# Altium integrated library TI Power Management Step-Up Regulator.IntLib: 226 symbols (part 10 of 11)
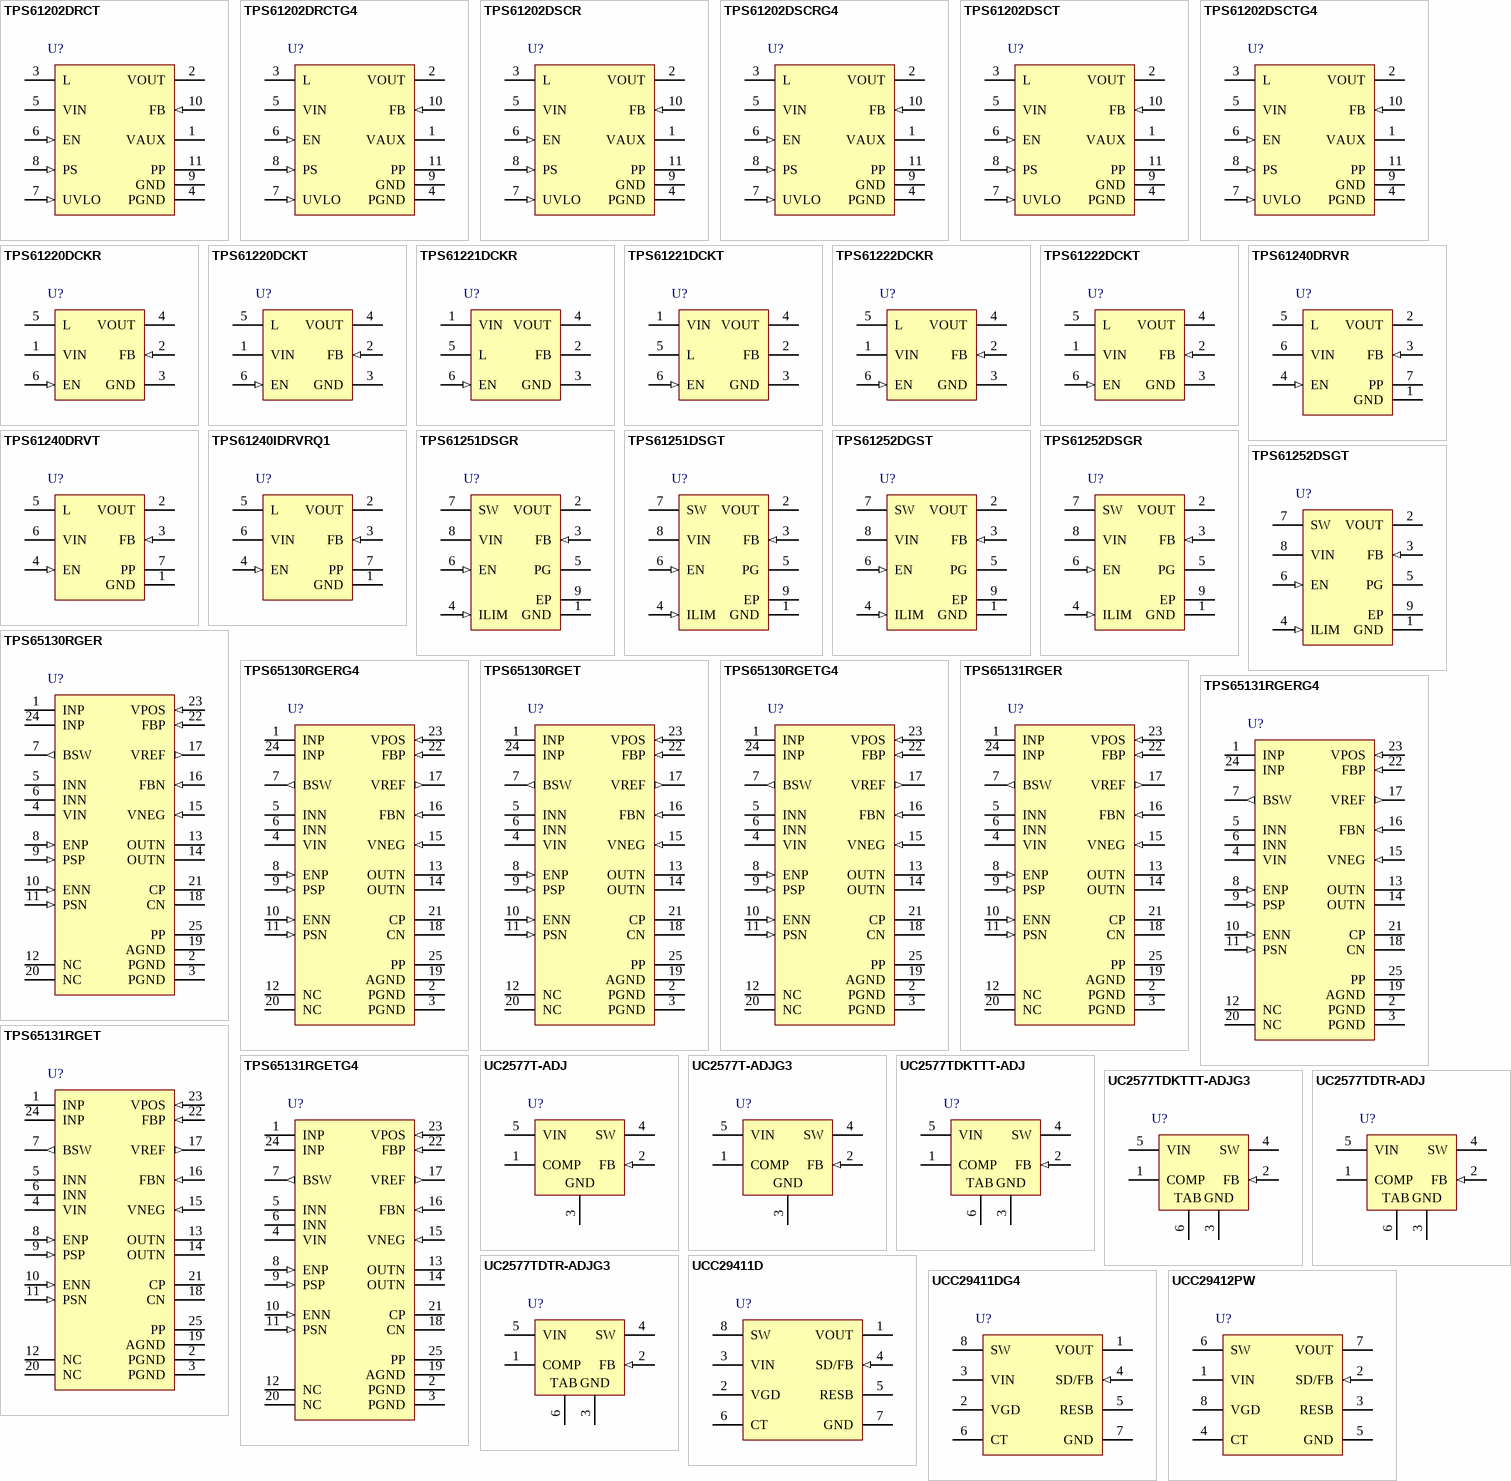
[diagram p15: symbols TPS61202DRCT to UCC29412PW]

## TPS61251DSGR
designator U?
Boost Voltage Converter with 2.3 to 6 V Input and 3 to 6.5 V Output, -40 to 85 degC, 8-Pin WSON (DSG), Green (RoHS & no Sb/Br); Manufacturer: Texas Instruments; PartNumber: TPS61251DSGR; Regulated Outputs(#): 1; SubFamily: Step-Up Regulator; Switching Frequency(Max)(kHz): 3500; Vin(Max)(V): 6; Vin(Min)(V): 2.3; Vout(Max)(V): 6.5; Vout(Min)(V): 3; DatasheetVersion: SLVSAF7; PackageVersion: revB, Oct-2010; PackageReference: DSG8-1600X900TP; PackageDescription: 8-Pin Plastic Small Outline No-Lead, 2 x 2 x 0.8 mm Body, 0.5 mm Pitch, Exposed Pad; Supplier 1: Digi-Key; Supplier Part Number 1: TPS61251DSGR-ND; Supplier 2: Newark; Supplier Part Number 2: 01T0838; Supplier 3: Mouser; Supplier Part Number 3: 595-TPS61251DSGR; Eco-Plan: Green (RoHS & no Sb/Br); Topology: Boost; Mounting Technology: Surface Mount; Code_JEDEC: MO-229; ComponentLink1Description: Datasheet; ComponentLink1URL: http://www.ti.com/general/docs/lit/getliterature.tsp?genericPartNumber=TPS61251&fileType=pdf; ComponentLink2Description: Package Specification; ComponentLink2URL: http://www.ti.com/litv/pdf/mpds308a
footprint DSG8-1600X900TP (SON, 8-Leads, Body 2x2mm, Pitch 0.5mm, Thermal Pad 1.6x0.9mm, TI Recommended)
pins: 1 GND (power) "Ground", 2 VOUT (power) "Boost converter output", 3 FB (in) "Voltage feedback pin", 4 ILIM (in) "Adjustable average input current limit. Can be connected to VIN for maximum current limit or to GND for minimum current limit.", 5 PG (oc) "Output power good (1 good, 0 failure; open drain)", 6 EN (in) "Enable input. (1 enabled, 0 disabled)", 7 SW (power) "Connection for Inductor", 8 VIN (power) "Supply voltage for power stage", 9 EP (power) "Must be soldered to achieve appropriate power dissipation and for mechanical reasons. Must be connected to GND."

## TPS61251DSGT
designator U?
Boost Voltage Converter with 2.3 to 6 V Input and 3 to 6.5 V Output, -40 to 85 degC, 8-Pin WSON (DSG), Green (RoHS & no Sb/Br); Manufacturer: Texas Instruments; PartNumber: TPS61251DSGT; Regulated Outputs(#): 1; SubFamily: Step-Up Regulator; Switching Frequency(Max)(kHz): 3500; Vin(Max)(V): 6; Vin(Min)(V): 2.3; Vout(Max)(V): 6.5; Vout(Min)(V): 3; DatasheetVersion: SLVSAF7; PackageVersion: revB, Oct-2010; PackageReference: DSG8-1600X900TP; PackageDescription: 8-Pin Plastic Small Outline No-Lead, 2 x 2 x 0.8 mm Body, 0.5 mm Pitch, Exposed Pad; Supplier 1: Digi-Key; Supplier Part Number 1: 296-27866-2-ND; Supplier 2: Digi-Key; Supplier Part Number 2: 296-27866-1-ND; Supplier 3: Digi-Key; Supplier Part Number 3: 296-27866-6-ND; Supplier 4: Farnell; Supplier Part Number 4: 1855123; Supplier 5: Newark; Supplier Part Number 5: 01T0839; Supplier 6: Mouser; Supplier Part Number 6: 595-TPS61251DSGT; Eco-Plan: Green (RoHS & no Sb/Br); Topology: Boost; Mounting Technology: Surface Mount; Code_JEDEC: MO-229; ComponentLink1Description: Datasheet; ComponentLink1URL: http://www.ti.com/general/docs/lit/getliterature.tsp?genericPartNumber=TPS61251&fileType=pdf; ComponentLink2Description: Package Specification; ComponentLink2URL: http://www.ti.com/litv/pdf/mpds308a
footprint DSG8-1600X900TP (SON, 8-Leads, Body 2x2mm, Pitch 0.5mm, Thermal Pad 1.6x0.9mm, TI Recommended)
pins: 1 GND (power) "Ground", 2 VOUT (power) "Boost converter output", 3 FB (in) "Voltage feedback pin", 4 ILIM (in) "Adjustable average input current limit. Can be connected to VIN for maximum current limit or to GND for minimum current limit.", 5 PG (oc) "Output power good (1 good, 0 failure; open drain)", 6 EN (in) "Enable input. (1 enabled, 0 disabled)", 7 SW (power) "Connection for Inductor", 8 VIN (power) "Supply voltage for power stage", 9 EP (power) "Must be soldered to achieve appropriate power dissipation and for mechanical reasons. Must be connected to GND."

## TPS61252DGST
designator U?
Boost Voltage Converter with 2.3 to 6 V Input and 3 to 6.5 V Output, -40 to 85 degC, 8-Pin WSON (DSG),; Manufacturer: Texas Instruments; PartNumber: TPS61252DGST; Regulated Outputs(#): 1; SubFamily: Step-Up Regulator; Switching Frequency(Max)(kHz): 3500; Vin(Max)(V): 6; Vin(Min)(V): 2.3; Vout(Max)(V): 6.5; Vout(Min)(V): 3; DatasheetVersion: SLVSAG3; PackageVersion: revB, Oct-2010; PackageReference: DSG8-1600X900TP; PackageDescription: 8-Pin Plastic Small Outline No-Lead, 2 x 2 x 0.8 mm Body, 0.5 mm Pitch, Exposed Pad; Supplier 1: Mouser; Supplier Part Number 1: N/A; Topology: Boost; Mounting Technology: Surface Mount; Code_JEDEC: MO-229; ComponentLink1Description: Datasheet; ComponentLink1URL: http://www.ti.com/general/docs/lit/getliterature.tsp?genericPartNumber=TPS61252&fileType=pdf; ComponentLink2Description: Package Specification; ComponentLink2URL: http://www.ti.com/litv/pdf/mpds308a
footprint DSG8-1600X900TP (SON, 8-Leads, Body 2x2mm, Pitch 0.5mm, Thermal Pad 1.6x0.9mm, TI Recommended)
pins: 1 GND (power) "Ground", 2 VOUT (power) "Boost converter output", 3 FB (in) "Voltage feedback pin", 4 ILIM (in) "Adjustable input valley current limit. Can be connected to VIN for maximum current.", 5 PG (oc) "Output power good (1 good, 0 failure; open drain)", 6 EN (in) "Enable input. (1 enabled, 0 disabled)", 7 SW (power) "Connection for Inductor", 8 VIN (power) "Supply voltage for power stage", 9 EP (power) "Must be soldered to achieve appropriate power dissipation and for mechanical reasons. Must be connected to GND."

## TPS61252DSGR
designator U?
Boost Voltage Converter with 2.3 to 6 V Input and 3 to 6.5 V Output, -40 to 85 degC, 8-Pin WSON (DSG), Green (RoHS & no Sb/Br); Manufacturer: Texas Instruments; PartNumber: TPS61252DSGR; Regulated Outputs(#): 1; SubFamily: Step-Up Regulator; Switching Frequency(Max)(kHz): 3500; Vin(Max)(V): 6; Vin(Min)(V): 2.3; Vout(Max)(V): 6.5; Vout(Min)(V): 3; DatasheetVersion: SLVSAG3; PackageVersion: revB, Oct-2010; PackageReference: DSG8-1600X900TP; PackageDescription: 8-Pin Plastic Small Outline No-Lead, 2 x 2 x 0.8 mm Body, 0.5 mm Pitch, Exposed Pad; Supplier 1: Digi-Key; Supplier Part Number 1: TPS61252DSGR-ND; Supplier 2: Newark; Supplier Part Number 2: 01T0840; Supplier 3: Mouser; Supplier Part Number 3: 595-TPS61252DSGR; Eco-Plan: Green (RoHS & no Sb/Br); Topology: Boost; Mounting Technology: Surface Mount; Code_JEDEC: MO-229; ComponentLink1Description: Datasheet; ComponentLink1URL: http://www.ti.com/general/docs/lit/getliterature.tsp?genericPartNumber=TPS61252&fileType=pdf; ComponentLink2Description: Package Specification; ComponentLink2URL: http://www.ti.com/litv/pdf/mpds308a
footprint DSG8-1600X900TP (SON, 8-Leads, Body 2x2mm, Pitch 0.5mm, Thermal Pad 1.6x0.9mm, TI Recommended)
pins: 1 GND (power) "Ground", 2 VOUT (power) "Boost converter output", 3 FB (in) "Voltage feedback pin", 4 ILIM (in) "Adjustable input valley current limit. Can be connected to VIN for maximum current.", 5 PG (oc) "Output power good (1 good, 0 failure; open drain)", 6 EN (in) "Enable input. (1 enabled, 0 disabled)", 7 SW (power) "Connection for Inductor", 8 VIN (power) "Supply voltage for power stage", 9 EP (power) "Must be soldered to achieve appropriate power dissipation and for mechanical reasons. Must be connected to GND."

## TPS61252DSGT
designator U?
Boost Adjustable Converter with 2.3 to 6 V Input and 3 to 6.5 V Output, 8-Pin WSON (DSG); Manufacturer: Texas Instruments; PartNumber: TPS61252DSGT; Eco-Plan: Green (RoHS & no Sb/Br); Regulated Outputs(#): 1; SubFamily: Step-Up Regulator; Switching Frequency(Max)(kHz): 3500; Vin(Max)(V): 6; Vin(Min)(V): 2.3; Vout(Max)(V): 6.5; Vout(Min)(V): 3; DatasheetVersion: SLVSAG3; PackageVersion: revB, Oct-2010; PackageReference: DSG8-1600X900TP; PackageDescription: 8-Pin Plastic Small Outline No-Lead, 2 x 2 x 0.8 mm Body, 0.5 mm Pitch, Exposed Pad; Supplier 1: Digi-Key; Supplier Part Number 1: 296-27867-2-ND; Supplier 2: Digi-Key; Supplier Part Number 2: 296-27867-1-ND; Supplier 3: Digi-Key; Supplier Part Number 3: 296-27867-6-ND; Supplier 4: Newark; Supplier Part Number 4: 01T0841; Supplier 5: Mouser; Supplier Part Number 5: 595-TPS61252DSGT; Topology: Boost; Mounting Technology: Surface Mount; Code_JEDEC: MO-229; ComponentLink1Description: Datasheet; ComponentLink1URL: http://www.ti.com/general/docs/lit/getliterature.tsp?genericPartNumber=TPS61252&fileType=pdf; ComponentLink2Description: Package Specification; ComponentLink2URL: http://www.ti.com/litv/pdf/mpds308a
footprint DSG8-1600X900TP (SON, 8-Leads, Body 2x2mm, Pitch 0.5mm, Thermal Pad 1.6x0.9mm, TI Recommended)
pins: 1 GND (power) "Ground", 2 VOUT (power) "Boost converter output", 3 FB (in) "Voltage feedback pin", 4 ILIM (in) "Adjustable input valley current limit. Can be connected to VIN for maximum current.", 5 PG (oc) "Output power good (1 good, 0 failure; open drain)", 6 EN (in) "Enable input. (1 enabled, 0 disabled)", 7 SW (power) "Connection for Inductor", 8 VIN (power) "Supply voltage for power stage", 9 EP (power) "Must be soldered to achieve appropriate power dissipation and for mechanical reasons. Must be connected to GND."

## TPS65130RGER
designator U?
Boost Inverting Buck-Boost Voltage Converter with 2.7 to 5.5 V Input and -15 to 15 V Output, -40 to 85 degC, 24-Pin VQFN (RGE), Green (RoHS & no Sb/Br); Manufacturer: Texas Instruments; PartNumber: TPS65130RGER; Regulated Outputs(#): 2; SubFamily: Step-Up Regulator; Switching Frequency(Typ)(kHz): 1400; Topology: Boost, Inverting Buck-Boost; Vin(Max)(V): 5.5; Vin(Min)(V): 2.7; Vout(Max)(V): 15; Vout2(V): -15 to -2; DatasheetVersion: SLVS493B; PackageVersion: revG, Jul-2011; PackageReference: RGE24-2450X2450TP; PackageDescription: 24-Pin Plastic Quad Flatpack No-Lead, 4 x 4 mm Body, 0.5 mm Pitch; Supplier 1: Digi-Key; Supplier Part Number 1: 296-17080-2-ND; Supplier 2: Digi-Key; Supplier Part Number 2: 296-17080-1-ND; Supplier 3: Digi-Key; Supplier Part Number 3: 296-17080-6-ND; Supplier 4: Newark; Supplier Part Number 4: 01J0979; Supplier 5: Mouser; Supplier Part Number 5: 595-TPS65130RGER; Eco-Plan: Green (RoHS & no Sb/Br); Vout(Min)(V): -15; Mounting Technology: Surface Mount; Code_JEDEC: MO-220; ComponentLink1Description: Datasheet; ComponentLink1URL: http://www.ti.com/general/docs/lit/getliterature.tsp?genericPartNumber=TPS65130&fileType=pdf; ComponentLink2Description: Package Specification; ComponentLink2URL: http://www.ti.com/litv/pdf/mpqf124f
footprint RGE24-2450X2450TP (QFN, 24-Leads, Body 4x4mm, Pitch 0.5mm, Thermal Pad 2.45x2.45mm, TI Recommended)
pins: 1 INP (power) "Boost converter switch input.", 2 PGND (power) "Power ground pin", 3 PGND (power) "Power ground pin", 4 VIN (power) "Control supply input", 5 INN (power) "Inverting converter switch input", 6 INN (power) "Inverting converter switch input", 7 BSW (out) "Gate control pin for external battery switch. This pin goes low when ENP is set high.", 8 ENP (in) "Enable pin for the positive output voltage (0 V: disabled, VIN: enabled)", 9 PSP (in) "Power-save mode enable for boost converter stage (0 V: disabled, VIN: enabled)", 10 ENN (in) "Enable pin for the negative output voltage (0 V: disabled, VIN: enabled)", 11 PSN (in) "Power-save mode enable for inverter stage (0 V: disabled, VIN: enabled)", 12 NC "Not connected", 13 OUTN (power) "Inverting converter switch output.", 14 OUTN (power) "Inverting converter switch output.", 15 VNEG (in) "Negative output voltage sense input", 16 FBN (in) "Feedback pin for the negative output voltage divider", 17 VREF (out) "Reference output voltage. Bypass this pin with a 220-nF capacitor to ground. Connect the lower resistor of the negative output voltage divider to this pin", 18 CN "Compensation pin for inverting converter control", 19 AGND (power) "Analog ground pin", 20 NC "Not connected", 21 CP "Compensation pin for boost converter control", 22 FBP (in) "Feedback pin for the positive output voltage divider", 23 VPOS (in) "Positive output voltage sense input", 24 INP (power) "Boost converter switch input.", 25 PP (power) "Must be soldered to achieve appropriate power dissipation and for mechanical reasons. Must be connected to GND."

## TPS65130RGERG4
designator U?
Boost Inverting Buck-Boost Voltage Converter with 2.7 to 5.5 V Input and -15 to 15 V Output, -40 to 85 degC, 24-Pin VQFN (RGE), Green (RoHS & no Sb/Br); Manufacturer: Texas Instruments; PartNumber: TPS65130RGERG4; Regulated Outputs(#): 2; SubFamily: Step-Up Regulator; Switching Frequency(Typ)(kHz): 1400; Topology: Boost, Inverting Buck-Boost; Vin(Max)(V): 5.5; Vin(Min)(V): 2.7; Vout(Max)(V): 15; Vout2(V): -15 to -2; DatasheetVersion: SLVS493B; PackageVersion: revG, Jul-2011; PackageReference: RGE24-2450X2450TP; PackageDescription: 24-Pin Plastic Quad Flatpack No-Lead, 4 x 4 mm Body, 0.5 mm Pitch; Supplier 1: Digi-Key; Supplier Part Number 1: TPS65130RGERG4-ND; Supplier 2: Newark; Supplier Part Number 2: 71J8219; Supplier 3: Mouser; Supplier Part Number 3: 595-TPS65130RGERG4; Eco-Plan: Green (RoHS & no Sb/Br); Vout(Min)(V): -15; Mounting Technology: Surface Mount; Code_JEDEC: MO-220; ComponentLink1Description: Datasheet; ComponentLink1URL: http://www.ti.com/general/docs/lit/getliterature.tsp?genericPartNumber=TPS65130&fileType=pdf; ComponentLink2Description: Package Specification; ComponentLink2URL: http://www.ti.com/litv/pdf/mpqf124f
footprint RGE24-2450X2450TP (QFN, 24-Leads, Body 4x4mm, Pitch 0.5mm, Thermal Pad 2.45x2.45mm, TI Recommended)
pins: 1 INP (power) "Boost converter switch input.", 2 PGND (power) "Power ground pin", 3 PGND (power) "Power ground pin", 4 VIN (power) "Control supply input", 5 INN (power) "Inverting converter switch input", 6 INN (power) "Inverting converter switch input", 7 BSW (out) "Gate control pin for external battery switch. This pin goes low when ENP is set high.", 8 ENP (in) "Enable pin for the positive output voltage (0 V: disabled, VIN: enabled)", 9 PSP (in) "Power-save mode enable for boost converter stage (0 V: disabled, VIN: enabled)", 10 ENN (in) "Enable pin for the negative output voltage (0 V: disabled, VIN: enabled)", 11 PSN (in) "Power-save mode enable for inverter stage (0 V: disabled, VIN: enabled)", 12 NC "Not connected", 13 OUTN (power) "Inverting converter switch output.", 14 OUTN (power) "Inverting converter switch output.", 15 VNEG (in) "Negative output voltage sense input", 16 FBN (in) "Feedback pin for the negative output voltage divider", 17 VREF (out) "Reference output voltage. Bypass this pin with a 220-nF capacitor to ground. Connect the lower resistor of the negative output voltage divider to this pin", 18 CN "Compensation pin for inverting converter control", 19 AGND (power) "Analog ground pin", 20 NC "Not connected", 21 CP "Compensation pin for boost converter control", 22 FBP (in) "Feedback pin for the positive output voltage divider", 23 VPOS (in) "Positive output voltage sense input", 24 INP (power) "Boost converter switch input.", 25 PP (power) "Must be soldered to achieve appropriate power dissipation and for mechanical reasons. Must be connected to GND."

## TPS65130RGET
designator U?
Boost Inverting Buck-Boost Voltage Converter with 2.7 to 5.5 V Input and -15 to 15 V Output, -40 to 85 degC, 24-Pin VQFN (RGE), Green (RoHS & no Sb/Br); Manufacturer: Texas Instruments; PartNumber: TPS65130RGET; Regulated Outputs(#): 2; SubFamily: Step-Up Regulator; Switching Frequency(Typ)(kHz): 1400; Topology: Boost, Inverting Buck-Boost; Vin(Max)(V): 5.5; Vin(Min)(V): 2.7; Vout(Max)(V): 15; Vout2(V): -15 to -2; DatasheetVersion: SLVS493B; PackageVersion: revG, Jul-2011; PackageReference: RGE24-2450X2450TP; PackageDescription: 24-Pin Plastic Quad Flatpack No-Lead, 4 x 4 mm Body, 0.5 mm Pitch; Supplier 1: Digi-Key; Supplier Part Number 1: TPS65130RGET-ND; Supplier 2: Farnell; Supplier Part Number 2: 1412621; Supplier 3: Newark; Supplier Part Number 3: 52K5944; Supplier 4: Mouser; Supplier Part Number 4: 595-TPS65130RGET; Eco-Plan: Green (RoHS & no Sb/Br); Vout(Min)(V): -15; Mounting Technology: Surface Mount; Code_JEDEC: MO-220; ComponentLink1Description: Datasheet; ComponentLink1URL: http://www.ti.com/general/docs/lit/getliterature.tsp?genericPartNumber=TPS65130&fileType=pdf; ComponentLink2Description: Package Specification; ComponentLink2URL: http://www.ti.com/litv/pdf/mpqf124f
footprint RGE24-2450X2450TP (QFN, 24-Leads, Body 4x4mm, Pitch 0.5mm, Thermal Pad 2.45x2.45mm, TI Recommended)
pins: 1 INP (power) "Boost converter switch input.", 2 PGND (power) "Power ground pin", 3 PGND (power) "Power ground pin", 4 VIN (power) "Control supply input", 5 INN (power) "Inverting converter switch input", 6 INN (power) "Inverting converter switch input", 7 BSW (out) "Gate control pin for external battery switch. This pin goes low when ENP is set high.", 8 ENP (in) "Enable pin for the positive output voltage (0 V: disabled, VIN: enabled)", 9 PSP (in) "Power-save mode enable for boost converter stage (0 V: disabled, VIN: enabled)", 10 ENN (in) "Enable pin for the negative output voltage (0 V: disabled, VIN: enabled)", 11 PSN (in) "Power-save mode enable for inverter stage (0 V: disabled, VIN: enabled)", 12 NC "Not connected", 13 OUTN (power) "Inverting converter switch output.", 14 OUTN (power) "Inverting converter switch output.", 15 VNEG (in) "Negative output voltage sense input", 16 FBN (in) "Feedback pin for the negative output voltage divider", 17 VREF (out) "Reference output voltage. Bypass this pin with a 220-nF capacitor to ground. Connect the lower resistor of the negative output voltage divider to this pin", 18 CN "Compensation pin for inverting converter control", 19 AGND (power) "Analog ground pin", 20 NC "Not connected", 21 CP "Compensation pin for boost converter control", 22 FBP (in) "Feedback pin for the positive output voltage divider", 23 VPOS (in) "Positive output voltage sense input", 24 INP (power) "Boost converter switch input.", 25 PP (power) "Must be soldered to achieve appropriate power dissipation and for mechanical reasons. Must be connected to GND."

## TPS65130RGETG4
designator U?
Boost Inverting Buck-Boost Adjustable Converter with 2.7 to 5.5 V Input and -15 to 15 V Output, -40 to 85 degC, 24-Pin VQFN (RGE), Green (RoHS & no Sb/Br); Manufacturer: Texas Instruments; PartNumber: TPS65130RGETG4; Regulated Outputs(#): 2; SubFamily: Step-Up Regulator; Switching Frequency(Typ)(kHz): 1400; Topology: Boost, Inverting Buck-Boost; Vin(Max)(V): 5.5; Vin(Min)(V): 2.7; Vout(Max)(V): 15; Vout2(V): -15 to -2; DatasheetVersion: SLVS493B; PackageVersion: revG, Jul-2011; PackageReference: RGE24-2450X2450TP; PackageDescription: 24-Pin Plastic Quad Flatpack No-Lead, 4 x 4 mm Body, 0.5 mm Pitch; Supplier 1: Digi-Key; Supplier Part Number 1: TPS65130RGETG4-ND; Supplier 2: Newark; Supplier Part Number 2: 80K3422; Supplier 3: Mouser; Supplier Part Number 3: 595-TPS65130RGETG4; Eco-Plan: Green (RoHS & no Sb/Br); Vout(Min)(V): -15; Mounting Technology: Surface Mount; Code_JEDEC: MO-220; ComponentLink1Description: Datasheet; ComponentLink1URL: http://www.ti.com/general/docs/lit/getliterature.tsp?genericPartNumber=TPS65130&fileType=pdf; ComponentLink2Description: Package Specification; ComponentLink2URL: http://www.ti.com/litv/pdf/mpqf124f
footprint RGE24-2450X2450TP (QFN, 24-Leads, Body 4x4mm, Pitch 0.5mm, Thermal Pad 2.45x2.45mm, TI Recommended)
pins: 1 INP (power) "Boost converter switch input.", 2 PGND (power) "Power ground pin", 3 PGND (power) "Power ground pin", 4 VIN (power) "Control supply input", 5 INN (power) "Inverting converter switch input", 6 INN (power) "Inverting converter switch input", 7 BSW (out) "Gate control pin for external battery switch. This pin goes low when ENP is set high.", 8 ENP (in) "Enable pin for the positive output voltage (0 V: disabled, VIN: enabled)", 9 PSP (in) "Power-save mode enable for boost converter stage (0 V: disabled, VIN: enabled)", 10 ENN (in) "Enable pin for the negative output voltage (0 V: disabled, VIN: enabled)", 11 PSN (in) "Power-save mode enable for inverter stage (0 V: disabled, VIN: enabled)", 12 NC "Not connected", 13 OUTN (power) "Inverting converter switch output.", 14 OUTN (power) "Inverting converter switch output.", 15 VNEG (in) "Negative output voltage sense input", 16 FBN (in) "Feedback pin for the negative output voltage divider", 17 VREF (out) "Reference output voltage. Bypass this pin with a 220-nF capacitor to ground. Connect the lower resistor of the negative output voltage divider to this pin", 18 CN "Compensation pin for inverting converter control", 19 AGND (power) "Analog ground pin", 20 NC "Not connected", 21 CP "Compensation pin for boost converter control", 22 FBP (in) "Feedback pin for the positive output voltage divider", 23 VPOS (in) "Positive output voltage sense input", 24 INP (power) "Boost converter switch input.", 25 PP (power) "Must be soldered to achieve appropriate power dissipation and for mechanical reasons. Must be connected to GND."

## TPS65131RGER
designator U?
Boost Inverting Buck-Boost Voltage Converter with 2.7 to 5.5 V Input and -15 to 15 V Output, -40 to 85 degC, 24-Pin VQFN (RGE), Green (RoHS & no Sb/Br); Manufacturer: Texas Instruments; PartNumber: TPS65131RGER; Regulated Outputs(#): 2; SubFamily: Step-Up Regulator; Switching Frequency(Typ)(kHz): 1400; Synchronous Rectification: TRUE; Topology: Boost, Inverting Buck-Boost; Vin(Max)(V): 5.5; Vin(Min)(V): 2.7; Vout(Max)(V): 15; Vout2(V): -15 to -2; DatasheetVersion: SLVS493B; PackageVersion: revG, Jul-2011; PackageReference: RGE24-2450X2450TP; PackageDescription: 24-Pin Plastic Quad Flatpack No-Lead, 4 x 4 mm Body, 0.5 mm Pitch; Supplier 1: Digi-Key; Supplier Part Number 1: TPS65131RGER-ND; Supplier 2: Newark; Supplier Part Number 2: 44J2535; Supplier 3: Mouser; Supplier Part Number 3: 595-TPS65131RGER; Eco-Plan: Green (RoHS & no Sb/Br); Vout(Min)(V): -15; Mounting Technology: Surface Mount; Code_JEDEC: MO-220; ComponentLink1Description: Datasheet; ComponentLink1URL: http://www.ti.com/general/docs/lit/getliterature.tsp?genericPartNumber=TPS65131&fileType=pdf; ComponentLink2Description: Package Specification; ComponentLink2URL: http://www.ti.com/litv/pdf/mpqf124f
footprint RGE24-2450X2450TP (QFN, 24-Leads, Body 4x4mm, Pitch 0.5mm, Thermal Pad 2.45x2.45mm, TI Recommended)
pins: 1 INP (power) "Boost converter switch input.", 2 PGND (power) "Power ground pin", 3 PGND (power) "Power ground pin", 4 VIN (power) "Control supply input", 5 INN (power) "Inverting converter switch input", 6 INN (power) "Inverting converter switch input", 7 BSW (out) "Gate control pin for external battery switch. This pin goes low when ENP is set high.", 8 ENP (in) "Enable pin for the positive output voltage (0 V: disabled, VIN: enabled)", 9 PSP (in) "Power-save mode enable for boost converter stage (0 V: disabled, VIN: enabled)", 10 ENN (in) "Enable pin for the negative output voltage (0 V: disabled, VIN: enabled)", 11 PSN (in) "Power-save mode enable for inverter stage (0 V: disabled, VIN: enabled)", 12 NC "Not connected", 13 OUTN (power) "Inverting converter switch output.", 14 OUTN (power) "Inverting converter switch output.", 15 VNEG (in) "Negative output voltage sense input", 16 FBN (in) "Feedback pin for the negative output voltage divider", 17 VREF (out) "Reference output voltage. Bypass this pin with a 220-nF capacitor to ground. Connect the lower resistor of the negative output voltage divider to this pin", 18 CN "Compensation pin for inverting converter control", 19 AGND (power) "Analog ground pin", 20 NC "Not connected", 21 CP "Compensation pin for boost converter control", 22 FBP (in) "Feedback pin for the positive output voltage divider", 23 VPOS (in) "Positive output voltage sense input", 24 INP (power) "Boost converter switch input.", 25 PP (power) "Exposed Thermal Pad."

## TPS65131RGERG4
designator U?
Boost Inverting Buck-Boost Voltage Converter with 2.7 to 5.5 V Input and -15 to 15 V Output, -40 to 85 degC, 24-Pin VQFN (RGE), Green (RoHS & no Sb/Br); Manufacturer: Texas Instruments; PartNumber: TPS65131RGERG4; Regulated Outputs(#): 2; SubFamily: Step-Up Regulator; Switching Frequency(Typ)(kHz): 1400; Synchronous Rectification: TRUE; Topology: Boost, Inverting Buck-Boost; Vin(Max)(V): 5.5; Vin(Min)(V): 2.7; Vout(Max)(V): 15; Vout2(V): -15 to -2; DatasheetVersion: SLVS493B; PackageVersion: revG, Jul-2011; PackageReference: RGE24-2450X2450TP; PackageDescription: 24-Pin Plastic Quad Flatpack No-Lead, 4 x 4 mm Body, 0.5 mm Pitch; Supplier 1: Digi-Key; Supplier Part Number 1: TPS65131RGERG4-ND; Supplier 2: Newark; Supplier Part Number 2: 33K7647; Supplier 3: Mouser; Supplier Part Number 3: 595-TPS65131RGERG4; Eco-Plan: Green (RoHS & no Sb/Br); Vout(Min)(V): -15; Mounting Technology: Surface Mount; Code_JEDEC: MO-220; ComponentLink1Description: Datasheet; ComponentLink1URL: http://www.ti.com/general/docs/lit/getliterature.tsp?genericPartNumber=TPS65131&fileType=pdf; ComponentLink2Description: Package Specification; ComponentLink2URL: http://www.ti.com/litv/pdf/mpqf124f
footprint RGE24-2450X2450TP (QFN, 24-Leads, Body 4x4mm, Pitch 0.5mm, Thermal Pad 2.45x2.45mm, TI Recommended)
pins: 1 INP (power) "Boost converter switch input.", 2 PGND (power) "Power ground pin", 3 PGND (power) "Power ground pin", 4 VIN (power) "Control supply input", 5 INN (power) "Inverting converter switch input", 6 INN (power) "Inverting converter switch input", 7 BSW (out) "Gate control pin for external battery switch. This pin goes low when ENP is set high.", 8 ENP (in) "Enable pin for the positive output voltage (0 V: disabled, VIN: enabled)", 9 PSP (in) "Power-save mode enable for boost converter stage (0 V: disabled, VIN: enabled)", 10 ENN (in) "Enable pin for the negative output voltage (0 V: disabled, VIN: enabled)", 11 PSN (in) "Power-save mode enable for inverter stage (0 V: disabled, VIN: enabled)", 12 NC "Not connected", 13 OUTN (power) "Inverting converter switch output.", 14 OUTN (power) "Inverting converter switch output.", 15 VNEG (in) "Negative output voltage sense input", 16 FBN (in) "Feedback pin for the negative output voltage divider", 17 VREF (out) "Reference output voltage. Bypass this pin with a 220-nF capacitor to ground. Connect the lower resistor of the negative output voltage divider to this pin", 18 CN "Compensation pin for inverting converter control", 19 AGND (power) "Analog ground pin", 20 NC "Not connected", 21 CP "Compensation pin for boost converter control", 22 FBP (in) "Feedback pin for the positive output voltage divider", 23 VPOS (in) "Positive output voltage sense input", 24 INP (power) "Boost converter switch input.", 25 PP (power) "Exposed Thermal Pad."

## TPS65131RGET
designator U?
Boost Inverting Buck-Boost Regulator with 2.7 to 5.5 V Input and -15 to 15 V Output, -40 to 85 degC, 24-Pin VQFN (RGE), Green (RoHS & no Sb/Br); Manufacturer: Texas Instruments; PartNumber: TPS65131RGET; Regulated Outputs(#): 2; SubFamily: Step-Up Regulator; Switching Frequency(Typ)(kHz): 1400; Synchronous Rectification: TRUE; Topology: Boost, Inverting Buck-Boost; Vin(Max)(V): 5.5; Vin(Min)(V): 2.7; Vout(Max)(V): 15; Vout2(V): -15 to -2; DatasheetVersion: SLVS493B; PackageVersion: revG, Jul-2011; PackageReference: RGE24-2450X2450TP; PackageDescription: 24-Pin Plastic Quad Flatpack No-Lead, 4 x 4 mm Body, 0.5 mm Pitch; Supplier 1: Digi-Key; Supplier Part Number 1: 296-17349-2-ND; Supplier 2: Digi-Key; Supplier Part Number 2: 296-17349-1-ND; Supplier 3: Digi-Key; Supplier Part Number 3: 296-17349-6-ND; Supplier 4: Newark; Supplier Part Number 4: 44J2536; Supplier 5: Mouser; Supplier Part Number 5: 595-TPS65131RGET; Eco-Plan: Green (RoHS & no Sb/Br); Vout(Min)(V): -15; Mounting Technology: Surface Mount; Code_JEDEC: MO-220; ComponentLink1Description: Datasheet; ComponentLink1URL: http://www.ti.com/general/docs/lit/getliterature.tsp?genericPartNumber=TPS65131&fileType=pdf; ComponentLink2Description: Package Specification; ComponentLink2URL: http://www.ti.com/litv/pdf/mpqf124f
footprint RGE24-2450X2450TP (QFN, 24-Leads, Body 4x4mm, Pitch 0.5mm, Thermal Pad 2.45x2.45mm, TI Recommended)
pins: 1 INP (power) "Boost converter switch input.", 2 PGND (power) "Power ground pin", 3 PGND (power) "Power ground pin", 4 VIN (power) "Control supply input", 5 INN (power) "Inverting converter switch input", 6 INN (power) "Inverting converter switch input", 7 BSW (out) "Gate control pin for external battery switch. This pin goes low when ENP is set high.", 8 ENP (in) "Enable pin for the positive output voltage (0 V: disabled, VIN: enabled)", 9 PSP (in) "Power-save mode enable for boost converter stage (0 V: disabled, VIN: enabled)", 10 ENN (in) "Enable pin for the negative output voltage (0 V: disabled, VIN: enabled)", 11 PSN (in) "Power-save mode enable for inverter stage (0 V: disabled, VIN: enabled)", 12 NC "Not connected", 13 OUTN (power) "Inverting converter switch output.", 14 OUTN (power) "Inverting converter switch output.", 15 VNEG (in) "Negative output voltage sense input", 16 FBN (in) "Feedback pin for the negative output voltage divider", 17 VREF (out) "Reference output voltage. Bypass this pin with a 220-nF capacitor to ground. Connect the lower resistor of the negative output voltage divider to this pin", 18 CN "Compensation pin for inverting converter control", 19 AGND (power) "Analog ground pin", 20 NC "Not connected", 21 CP "Compensation pin for boost converter control", 22 FBP (in) "Feedback pin for the positive output voltage divider", 23 VPOS (in) "Positive output voltage sense input", 24 INP (power) "Boost converter switch input.", 25 PP (power) "Exposed Thermal Pad."

## TPS65131RGETG4
designator U?
Boost Inverting Buck-Boost Regulator with 2.7 to 5.5 V Input and -15 to 15 V Output, -40 to 85 degC, 24-Pin VQFN (RGE), Green (RoHS & no Sb/Br); Manufacturer: Texas Instruments; PartNumber: TPS65131RGETG4; Regulated Outputs(#): 2; SubFamily: Step-Up Regulator; Switching Frequency(Typ)(kHz): 1400; Synchronous Rectification: TRUE; Topology: Boost, Inverting Buck-Boost; Vin(Max)(V): 5.5; Vin(Min)(V): 2.7; Vout(Max)(V): 15; Vout2(V): -15 to -2; DatasheetVersion: SLVS493B; PackageVersion: revG, Jul-2011; PackageReference: RGE24-2450X2450TP; PackageDescription: 24-Pin Plastic Quad Flatpack No-Lead, 4 x 4 mm Body, 0.5 mm Pitch; Supplier 1: Digi-Key; Supplier Part Number 1: 296-28008-2-ND; Supplier 2: Digi-Key; Supplier Part Number 2: 296-28008-1-ND; Supplier 3: Digi-Key; Supplier Part Number 3: 296-28008-6-ND; Supplier 4: Newark; Supplier Part Number 4: 24K6058; Supplier 5: Mouser; Supplier Part Number 5: 595-TPS65131RGETG4; Eco-Plan: Green (RoHS & no Sb/Br); Vout(Min)(V): -15; Mounting Technology: Surface Mount; Code_JEDEC: MO-220; ComponentLink1Description: Datasheet; ComponentLink1URL: http://www.ti.com/general/docs/lit/getliterature.tsp?genericPartNumber=TPS65131&fileType=pdf; ComponentLink2Description: Package Specification; ComponentLink2URL: http://www.ti.com/litv/pdf/mpqf124f
footprint RGE24-2450X2450TP (QFN, 24-Leads, Body 4x4mm, Pitch 0.5mm, Thermal Pad 2.45x2.45mm, TI Recommended)
pins: 1 INP (power) "Boost converter switch input.", 2 PGND (power) "Power ground pin", 3 PGND (power) "Power ground pin", 4 VIN (power) "Control supply input", 5 INN (power) "Inverting converter switch input", 6 INN (power) "Inverting converter switch input", 7 BSW (out) "Gate control pin for external battery switch. This pin goes low when ENP is set high.", 8 ENP (in) "Enable pin for the positive output voltage (0 V: disabled, VIN: enabled)", 9 PSP (in) "Power-save mode enable for boost converter stage (0 V: disabled, VIN: enabled)", 10 ENN (in) "Enable pin for the negative output voltage (0 V: disabled, VIN: enabled)", 11 PSN (in) "Power-save mode enable for inverter stage (0 V: disabled, VIN: enabled)", 12 NC "Not connected", 13 OUTN (power) "Inverting converter switch output.", 14 OUTN (power) "Inverting converter switch output.", 15 VNEG (in) "Negative output voltage sense input", 16 FBN (in) "Feedback pin for the negative output voltage divider", 17 VREF (out) "Reference output voltage. Bypass this pin with a 220-nF capacitor to ground. Connect the lower resistor of the negative output voltage divider to this pin", 18 CN "Compensation pin for inverting converter control", 19 AGND (power) "Analog ground pin", 20 NC "Not connected", 21 CP "Compensation pin for boost converter control", 22 FBP (in) "Feedback pin for the positive output voltage divider", 23 VPOS (in) "Positive output voltage sense input", 24 INP (power) "Boost converter switch input.", 25 PP (power) "Exposed Thermal Pad."

## UC2577T-ADJ
designator U?
Boost Regulator with 3 to 40 V Input and 5 to 60 V Output, -40 to 125 degC, 5-Pin TO-220 (KC), Green (RoHS & no Sb/Br); Manufacturer: Texas Instruments; PartNumber: UC2577T-ADJ; Regulated Outputs(#): 1; SubFamily: Step-Up Regulator; Switching Frequency(Max)(kHz): 52; Vin(Max)(V): 40; Vin(Min)(V): 3; Vout(Max)(V): 60; Vout(Min)(V): 5; DatasheetVersion: SLUS216A; PackageVersion: revF, Jul-2006; PackageReference: KC5; PackageDescription: Plastic Flange-Mount Package; 5 In-Line Leads; Pitch 1.70 mm; Supplier 1: Digi-Key; Supplier Part Number 1: 296-11159-5-ND; Supplier 2: Farnell; Supplier Part Number 2: 8462054; Supplier 3: Newark; Supplier Part Number 3: 77C2817; Supplier 4: Mouser; Supplier Part Number 4: 595-UC2577T-ADJ; Eco-Plan: Green (RoHS & no Sb/Br); Topology: Boost; Mounting Technology: Through Hole; ComponentLink1Description: Datasheet; ComponentLink1URL: http://www.ti.com/general/docs/lit/getliterature.tsp?genericPartNumber=UC2577-ADJ&fileType=pdf; ComponentLink2Description: Package Specification; ComponentLink2URL: http://www.ti.com/litv/pdf/msot008c
footprint KC5 (TO, Thru-Hole, Vertical, Heatsink Mounted; 5 In-Line Leads; Pitch 1.70 mm)
pins: 1 COMP, 2 FB (in), 3 GND (power), 4 SW (power), 5 VIN (power)

## UC2577T-ADJG3
designator U?
Boost Regulator with 3 to 40 V Input and 5 to 60 V Output, -40 to 125 degC, 5-Pin TO-220 (KC), Green (RoHS & no Sb/Br); Manufacturer: Texas Instruments; PartNumber: UC2577T-ADJG3; Regulated Outputs(#): 1; SubFamily: Step-Up Regulator; Switching Frequency(Max)(kHz): 52; Vin(Max)(V): 40; Vin(Min)(V): 3; Vout(Max)(V): 60; Vout(Min)(V): 5; DatasheetVersion: SLUS216A; PackageVersion: revF, Jul-2006; PackageReference: KC5; PackageDescription: Plastic Flange-Mount Package; 5 In-Line Leads; Pitch 1.70 mm; Supplier 1: Digi-Key; Supplier Part Number 1: UC2577T-ADJG3-ND; Supplier 2: Newark; Supplier Part Number 2: 54K2250; Supplier 3: Mouser; Supplier Part Number 3: 595-UC2577T-ADJG3; Eco-Plan: Green (RoHS & no Sb/Br); Topology: Boost; Mounting Technology: Through Hole; ComponentLink1Description: Datasheet; ComponentLink1URL: http://www.ti.com/general/docs/lit/getliterature.tsp?genericPartNumber=UC2577-ADJ&fileType=pdf; ComponentLink2Description: Package Specification; ComponentLink2URL: http://www.ti.com/litv/pdf/msot008c
footprint KC5 (TO, Thru-Hole, Vertical, Heatsink Mounted; 5 In-Line Leads; Pitch 1.70 mm)
pins: 1 COMP, 2 FB (in), 3 GND (power), 4 SW (power), 5 VIN (power)

## UC2577TDKTTT-ADJ
designator U?
Boost Regulator with 3 to 40 V Input and 5 to 60 V Output, -40 to 125 degC, 5-Pin DDPAK/TO-263 (KTT), Green (RoHS & no Sb/Br); Manufacturer: Texas Instruments; PartNumber: UC2577TDKTTT-ADJ; Regulated Outputs(#): 1; SubFamily: Step-Up Regulator; Switching Frequency(Max)(kHz): 52; Vin(Max)(V): 40; Vin(Min)(V): 3; Vout(Max)(V): 60; Vout(Min)(V): 5; DatasheetVersion: SLUS216A; PackageVersion: revF, Jul-2011; PackageReference: KTT5; PackageDescription: 6-Pin Plastic Fange-Mount Package 1.7 mm Pitch, 15.2 mm Lead Span; Supplier 1: Digi-Key; Supplier Part Number 1: 296-16010-2-ND; Supplier 2: Digi-Key; Supplier Part Number 2: 296-16010-1-ND; Supplier 3: Digi-Key; Supplier Part Number 3: 296-16010-6-ND; Supplier 4: Farnell; Supplier Part Number 4: 1534761; Supplier 5: Newark; Supplier Part Number 5: 87H4720; Supplier 6: Mouser; Supplier Part Number 6: 595-UC2577TDKTTT-ADJ; Eco-Plan: Green (RoHS & no Sb/Br); Topology: Boost; Mounting Technology: Surface Mount; Code_JEDEC: TO-263-AB; ComponentLink1Description: Datasheet; ComponentLink1URL: http://www.ti.com/general/docs/lit/getliterature.tsp?genericPartNumber=UC2577-ADJ&fileType=pdf; ComponentLink2Description: Package Specification; ComponentLink2URL: http://www.ti.com/litv/pdf/mpsf007e
footprint KTT5_N (D2-PAK, 6-Leads, Body 8.9x10.2mm, Pitch 1.7mm, Lead Span 15.2mm, IPC Medium Density)
footprint KTT5_L (D2-PAK, 6-Leads, Body 8.9x10.2mm, Pitch 1.7mm, Lead Span 15.2mm, IPC High Density)
footprint KTT5_M (D2-PAK, 6-Leads, Body 8.9x10.2mm, Pitch 1.7mm, Lead Span 15.2mm, IPC Low Density)
pins: 1 COMP, 2 FB (in), 3 GND (power), 4 SW (power), 5 VIN (power), 6 TAB

## UC2577TDKTTT-ADJG3
designator U?
Boost Regulator with 3 to 40 V Input and 5 to 60 V Output, -40 to 125 degC, 5-Pin DDPAK/TO-263 (KTT), Green (RoHS & no Sb/Br); Manufacturer: Texas Instruments; PartNumber: UC2577TDKTTT-ADJG3; Regulated Outputs(#): 1; SubFamily: Step-Up Regulator; Switching Frequency(Max)(kHz): 52; Vin(Max)(V): 40; Vin(Min)(V): 3; Vout(Max)(V): 60; Vout(Min)(V): 5; DatasheetVersion: SLUS216A; PackageVersion: revF, Jul-2011; PackageReference: KTT5; PackageDescription: 6-Pin Plastic Fange-Mount Package 1.7 mm Pitch, 15.2 mm Lead Span; Supplier 1: Digi-Key; Supplier Part Number 1: UC2577TDKTTT-ADJG3-ND; Supplier 2: Newark; Supplier Part Number 2: 73K9688; Supplier 3: Mouser; Supplier Part Number 3: 595-UC2577TDKTTADJG3; Eco-Plan: Green (RoHS & no Sb/Br); Topology: Boost; Mounting Technology: Surface Mount; Code_JEDEC: TO-263-AB; ComponentLink1Description: Datasheet; ComponentLink1URL: http://www.ti.com/general/docs/lit/getliterature.tsp?genericPartNumber=UC2577-ADJ&fileType=pdf; ComponentLink2Description: Package Specification; ComponentLink2URL: http://www.ti.com/litv/pdf/mpsf007e
footprint KTT5_N (D2-PAK, 6-Leads, Body 8.9x10.2mm, Pitch 1.7mm, Lead Span 15.2mm, IPC Medium Density)
footprint KTT5_L (D2-PAK, 6-Leads, Body 8.9x10.2mm, Pitch 1.7mm, Lead Span 15.2mm, IPC High Density)
footprint KTT5_M (D2-PAK, 6-Leads, Body 8.9x10.2mm, Pitch 1.7mm, Lead Span 15.2mm, IPC Low Density)
pins: 1 COMP, 2 FB (in), 3 GND (power), 4 SW (power), 5 VIN (power), 6 TAB

## UC2577TDTR-ADJ
designator U?
Boost Regulator with 3 to 40 V Input and 5 to 60 V Output, -40 to 125 degC, 5-Pin DDPAK/TO-263 (KTT), Green (RoHS & no Sb/Br); Manufacturer: Texas Instruments; PartNumber: UC2577TDTR-ADJ; Regulated Outputs(#): 1; SubFamily: Step-Up Regulator; Switching Frequency(Max)(kHz): 52; Vin(Max)(V): 40; Vin(Min)(V): 3; Vout(Max)(V): 60; Vout(Min)(V): 5; DatasheetVersion: SLUS216A; PackageVersion: revF, Jul-2011; PackageReference: KTT5; PackageDescription: 6-Pin Plastic Fange-Mount Package 1.7 mm Pitch, 15.2 mm Lead Span; Supplier 1: Digi-Key; Supplier Part Number 1: UC2577TDTR-ADJ-ND; Supplier 2: Newark; Supplier Part Number 2: 77C2819; Supplier 3: Mouser; Supplier Part Number 3: 595-UC2577TDTR-ADJ; Eco-Plan: Green (RoHS & no Sb/Br); Topology: Boost; Mounting Technology: Surface Mount; Code_JEDEC: TO-263-AB; ComponentLink1Description: Datasheet; ComponentLink1URL: http://www.ti.com/general/docs/lit/getliterature.tsp?genericPartNumber=UC2577-ADJ&fileType=pdf; ComponentLink2Description: Package Specification; ComponentLink2URL: http://www.ti.com/litv/pdf/mpsf007e
footprint KTT5_N (D2-PAK, 6-Leads, Body 8.9x10.2mm, Pitch 1.7mm, Lead Span 15.2mm, IPC Medium Density)
footprint KTT5_L (D2-PAK, 6-Leads, Body 8.9x10.2mm, Pitch 1.7mm, Lead Span 15.2mm, IPC High Density)
footprint KTT5_M (D2-PAK, 6-Leads, Body 8.9x10.2mm, Pitch 1.7mm, Lead Span 15.2mm, IPC Low Density)
pins: 1 COMP, 2 FB (in), 3 GND (power), 4 SW (power), 5 VIN (power), 6 TAB

## UC2577TDTR-ADJG3
designator U?
Boost Regulator with 3 to 40 V Input and 5 to 60 V Output, -40 to 125 degC, 5-Pin DDPAK/TO-263 (KTT), Green (RoHS & no Sb/Br); Manufacturer: Texas Instruments; PartNumber: UC2577TDTR-ADJG3; Regulated Outputs(#): 1; SubFamily: Step-Up Regulator; Switching Frequency(Max)(kHz): 52; Vin(Max)(V): 40; Vin(Min)(V): 3; Vout(Max)(V): 60; Vout(Min)(V): 5; DatasheetVersion: SLUS216A; PackageVersion: revF, Jul-2011; PackageReference: KTT5; PackageDescription: 6-Pin Plastic Fange-Mount Package 1.7 mm Pitch, 15.2 mm Lead Span; Supplier 1: Digi-Key; Supplier Part Number 1: UC2577TDTR-ADJG3-ND; Supplier 2: Newark; Supplier Part Number 2: 67K8811; Supplier 3: Mouser; Supplier Part Number 3: 595-UC2577TDTR-ADJG3; Eco-Plan: Green (RoHS & no Sb/Br); Topology: Boost; Mounting Technology: Surface Mount; Code_JEDEC: TO-263-AB; ComponentLink1Description: Datasheet; ComponentLink1URL: http://www.ti.com/general/docs/lit/getliterature.tsp?genericPartNumber=UC2577-ADJ&fileType=pdf; ComponentLink2Description: Package Specification; ComponentLink2URL: http://www.ti.com/litv/pdf/mpsf007e
footprint KTT5_N (D2-PAK, 6-Leads, Body 8.9x10.2mm, Pitch 1.7mm, Lead Span 15.2mm, IPC Medium Density)
footprint KTT5_L (D2-PAK, 6-Leads, Body 8.9x10.2mm, Pitch 1.7mm, Lead Span 15.2mm, IPC High Density)
footprint KTT5_M (D2-PAK, 6-Leads, Body 8.9x10.2mm, Pitch 1.7mm, Lead Span 15.2mm, IPC Low Density)
pins: 1 COMP, 2 FB (in), 3 GND (power), 4 SW (power), 5 VIN (power), 6 TAB

## UCC29411D
designator U?
Boost Regulator with 1 to 5.5 V Input and 2 to 5 V Output, -40 to 85 degC, 8-Pin SOIC (D); Manufacturer: Texas Instruments; PartNumber: UCC29411D; Eco-Plan: Green (RoHS & no Sb/Br); Regulated Outputs(#): 1; SubFamily: Step-Up Regulator; Switching Frequency(Max)(kHz): 500; Synchronous Rectification: TRUE; Vin(Max)(V): 5.5; Vout(Max)(V): 5; Vout(Min)(V): 2; DatasheetVersion: SLUS245E; PackageVersion: revM, Jun-2011; PackageReference: D8; PackageDescription: 8-Pin Plastic Small Outline Integrated Circuit, 4.9 x 3.9 mm, Pitch 1.27 mm Pitch; Supplier 1: Digi-Key; Supplier Part Number 1: UCC29411D-ND; Supplier 2: Newark; Supplier Part Number 2: 77C2212; Supplier 3: Mouser; Supplier Part Number 3: 595-UCC29411D; Topology: Boost; Vin(Min)(V): 1; Mounting Technology: Surface Mount; Code_JEDEC: MS-012AA; ComponentLink1Description: Datasheet; ComponentLink1URL: http://www.ti.com/general/docs/lit/getliterature.tsp?genericPartNumber=UCC29411&fileType=pdf; ComponentLink2Description: Package Specification; ComponentLink2URL: http://www.ti.com/litv/pdf/msoi002j
footprint D8_N (SOIC, 8-Leads, Body 4.9x3.9mm, Pitch 1.27mm, IPC Medium Density)
footprint D8_L (SOIC, 8-Leads, Body 4.9x3.9mm, Pitch 1.27mm, IPC High Density)
footprint D8_M (SOIC, 8-Leads, Body 4.9x3.9mm, Pitch 1.27mm, IPC Low Density)
pins: 1 VOUT (power) "Main output voltage (3.3 V, 5 V, or adjustable), has highest priority in the multiplexing scheme, as long as VGD is above the critical level of 6.3 V. Startup at full load is achievable at input voltages down to 1 V.", 2 VGD (power) "The VGD pin, which is coarsely regulated around 7 V (8.5 V for the UCC39413), is primarily used for the gate drive supply for the power switches in the IC. This pin can be loaded with up to 10 mA as long as it does not (See Datasheet)", 3 VIN (power) "Input voltage to supply the IC during start-up. After the output is running the IC draws power from VOUT or VGD.", 4 SD/FB (in) "For the UCC39411, this pin is used to adjust the output voltage via a resistive divider from VOUT. It also serves as the shutdown pin for all three versions. Pulling this pin low provides a shutdown signal to the IC", 5 RESB (oc) "This pin provides an active low signal to alert the user when the main output voltage falls below 10% of its targeted value. The open-drain output can be used to reset a microcontroller that may be powered off of the main (See Datasheet)", 6 CT "This pin provides the timer for determining the reset period. The period is controlled by placing a capacitor to ground of value C = (0.81e-6) x t where t is the desired reset period.", 7 GND (power) "Ground of the IC.", 8 SW (power) "An inductor is connected between this pin and VIN. The VGD (gate drive supply) flyback diode is also connected to this pin. When servicing the main output supply this pin pulls low, charging the inductor, then shuts off (See Datasheet)"

## UCC29411DG4
designator U?
Boost Regulator with 1 to 5.5 V Input and 2 to 5 V Output, -40 to 85 degC, 8-Pin SOIC (D); Manufacturer: Texas Instruments; PartNumber: UCC29411DG4; Eco-Plan: Green (RoHS & no Sb/Br); Regulated Outputs(#): 1; SubFamily: Step-Up Regulator; Switching Frequency(Max)(kHz): 500; Synchronous Rectification: TRUE; Vin(Max)(V): 5.5; Vout(Max)(V): 5; Vout(Min)(V): 2; DatasheetVersion: SLUS245E; PackageVersion: revM, Jun-2011; PackageReference: D8; PackageDescription: 8-Pin Plastic Small Outline Integrated Circuit, 4.9 x 3.9 mm, Pitch 1.27 mm Pitch; Supplier 1: Digi-Key; Supplier Part Number 1: UCC29411DG4-ND; Supplier 2: Newark; Supplier Part Number 2: 70K5902; Supplier 3: Mouser; Supplier Part Number 3: 595-UCC29411DG4; Topology: Boost; Vin(Min)(V): 1; Mounting Technology: Surface Mount; Code_JEDEC: MS-012AA; ComponentLink1Description: Datasheet; ComponentLink1URL: http://www.ti.com/general/docs/lit/getliterature.tsp?genericPartNumber=UCC29411&fileType=pdf; ComponentLink2Description: Package Specification; ComponentLink2URL: http://www.ti.com/litv/pdf/msoi002j
footprint D8_N (SOIC, 8-Leads, Body 4.9x3.9mm, Pitch 1.27mm, IPC Medium Density)
footprint D8_L (SOIC, 8-Leads, Body 4.9x3.9mm, Pitch 1.27mm, IPC High Density)
footprint D8_M (SOIC, 8-Leads, Body 4.9x3.9mm, Pitch 1.27mm, IPC Low Density)
pins: 1 VOUT (power) "Main output voltage (3.3 V, 5 V, or adjustable), has highest priority in the multiplexing scheme, as long as VGD is above the critical level of 6.3 V. Startup at full load is achievable at input voltages down to 1 V.", 2 VGD (power) "The VGD pin, which is coarsely regulated around 7 V (8.5 V for the UCC39413), is primarily used for the gate drive supply for the power switches in the IC. This pin can be loaded with up to 10 mA as long as it does not (See Datasheet)", 3 VIN (power) "Input voltage to supply the IC during start-up. After the output is running the IC draws power from VOUT or VGD.", 4 SD/FB (in) "For the UCC39411, this pin is used to adjust the output voltage via a resistive divider from VOUT. It also serves as the shutdown pin for all three versions. Pulling this pin low provides a shutdown signal to the IC", 5 RESB (oc) "This pin provides an active low signal to alert the user when the main output voltage falls below 10% of its targeted value. The open-drain output can be used to reset a microcontroller that may be powered off of the main (See Datasheet)", 6 CT "This pin provides the timer for determining the reset period. The period is controlled by placing a capacitor to ground of value C = (0.81e-6) x t where t is the desired reset period.", 7 GND (power) "Ground of the IC.", 8 SW (power) "An inductor is connected between this pin and VIN. The VGD (gate drive supply) flyback diode is also connected to this pin. When servicing the main output supply this pin pulls low, charging the inductor, then shuts off (See Datasheet)"

## UCC29412PW
designator U?
Boost Regulator with 1 to 3.8 V Input and 3.3 V Output, -40 to 85 degC, 8-Pin TSSOP (PW); Manufacturer: Texas Instruments; PartNumber: UCC29412PW; Eco-Plan: Green (RoHS & no Sb/Br); Preset Vout(V): 3.3; Regulated Outputs(#): 1; SubFamily: Step-Up Regulator; Switching Frequency(Max)(kHz): 500; Synchronous Rectification: TRUE; Vin(Max)(V): 3.8; DatasheetVersion: SLUS245E; PackageVersion: revG, Feb-2011; PackageReference: PW8; PackageDescription: 8-Pin Plastic Thin Small Outline Package 3 x 4.4 mm Body ,0.65 mm Pitch; Supplier 1: Digi-Key; Supplier Part Number 1: UCC29412PW-ND; Supplier 2: Newark; Supplier Part Number 2: 77C2217; Supplier 3: Mouser; Supplier Part Number 3: 595-UCC29412PW; Topology: Boost; Vin(Min)(V): 1; Vout(Max)(V): 3.3; Vout(Min)(V): 3.3; Mounting Technology: Surface Mount; Code_JEDEC: MO-153; ComponentLink1Description: Datasheet; ComponentLink1URL: http://www.ti.com/general/docs/lit/getliterature.tsp?genericPartNumber=UCC29412&fileType=pdf; ComponentLink2Description: Package Specification; ComponentLink2URL: http://www.ti.com/litv/pdf/mtss001d
footprint PW8_N (TSOP, 8-Leads, Body 3x4.4mm, Pitch 0.65mm, IPC Medium Density)
footprint PW8_L (TSOP, 8-Leads, Body 3x4.4mm, Pitch 0.65mm, IPC High Density)
footprint PW8_M (TSOP, 8-Leads, Body 3x4.4mm, Pitch 0.65mm, IPC Low Density)
pins: 1 VIN (power) "Input voltage to supply the IC during start-up. After the output is running the IC draws power from VOUT or VGD.", 2 SD/FB (in) "For the UCC39411, this pin is used to adjust the output voltage via a resistive divider from VOUT. It also serves as the shutdown pin for all three versions. Pulling this pin low provides a shutdown signal to the IC.", 3 RESB (oc) "This pin provides an active low signal to alert the user when the main output voltage falls below 10% of its targeted value. The open-drain output can be used to reset a microcontroller that may be powered off of the main (See Datasheet)", 4 CT "This pin provides the timer for determining the reset period. The period is controlled by placing a capacitor to ground of value C = (0.81e-6) x  t where t is the desired reset period.", 5 GND (power) "Ground of the IC.", 6 SW (power) "An inductor is connected between this pin and VIN. The VGD (gate drive supply) flyback diode is also connected to this pin. When servicing the main output supply this pin pulls low, charging the inductor, then shuts off (See Datasheet)", 7 VOUT (power) "Main output voltage (3.3 V, 5 V, or adjustable), has highest priority in the multiplexing scheme, as long as VGD is above the critical level of 6.3 V. Startup at full load is achievable at input voltages down to 1 V", 8 VGD (power) "The VGD pin, which is coarsely regulated around 7 V (8.5 V for the UCC39413), is primarily used for the gate drive supply for the power switches in the IC. This pin can be loaded with up to 10 mA as long as it does not (See Datasheet)"

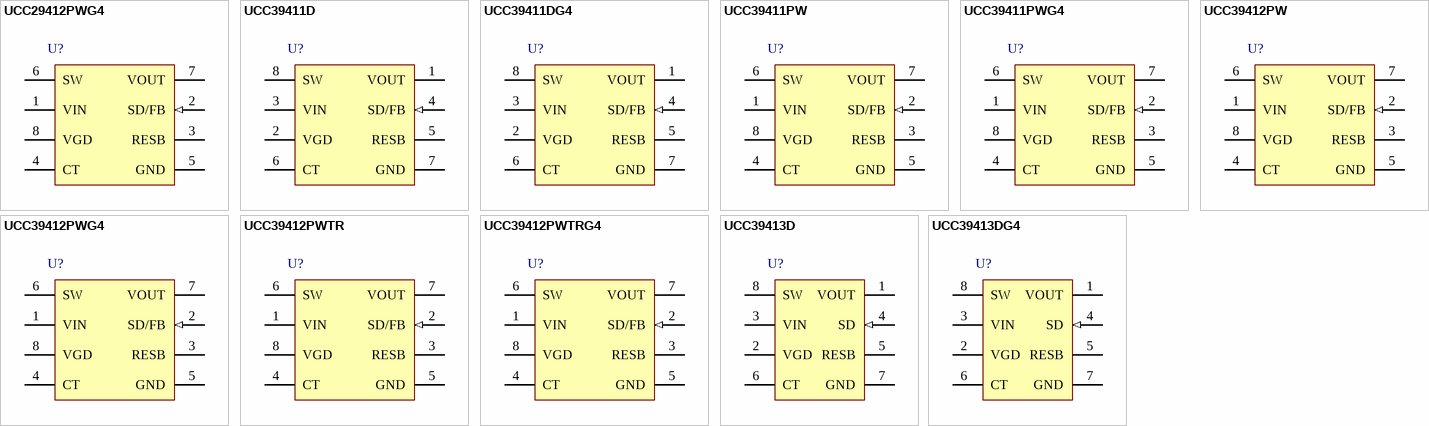
[diagram p6: symbols UCC29412PWG4 to UCC39413DG4]